# Altium schematic symbol library LNJ337W83RA Panasonic SSG.SchLib: 1 symbol
Pins are listed as number, name and electrical type; pins without a type are passive.

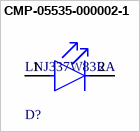
[diagram p0: symbol CMP-05535-000002-1]

## CMP-05535-000002-1
designator D?, comment LNJ337W83RA
LED GREEN ESS II SMD; Obsolete Part: true; Manufacturer: Panasonic; Peak Emmision Wavelength: 575nm; Wavelength: 572nm; Reverse Voltage: 4V; Forward Current: 5mA; Forward Voltage: 1.95V; Luminous Intensity: 7.5mcd; Led Orientation: Top View; Power Dissipation: 55mW; Automotive: No; Mouser Description: LNJ337W83RA; ESS II Series Yellow-Green LED; 572 nm 1608(0603); Rectangle Lens; Temperature: -30°C to +85°C; Category: Diode; Temperature Range High: +85°C; Colour: Green; Height: 0.25mm; Device Class L2: LEDs; Device Class L3: unset; ComponentLink2Description: Datasheet; RoHS: TRUE; Package: LNJ337W83RA; Digikey Description: LED GREEN ESS II SMD; Lead Free: Yes; Ambient Temperature Range High: +85°C; ComponentLink2URL: https://industrial.panasonic.com/content/data/SC/ds/ds4/LNJ337W83RA_E.pdf; Temperature Range Low: -30°C; Manufacturer Part Number: LNJ337W83RA; Octopart: https://octopart.com/lnj337w83ra-panasonic-44404387; Ambient Temperature Range Low: -30°C; Device Class L1: Optoelectronics
footprint FP-LNJ337W83RA-MFG
pins: 1 A, 2 C